# EAGLE library part NT3H (library PCB_BusinessCard)
NXP NTAG NT3H
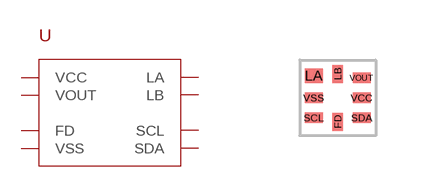
[diagram p0: symbol with the pads of XQFN8; footprint XQFN8]

Designator prefix -

## NT3H  [XQFN8]
FD  FD
LA  LA
LB  LB
SCL  SCL
SDA  SDA
VCC  VCC
VOUT  VOUT
VSS  VSS

## Footprint XQFN8 (pad centres in mm)
NXP NTAG NT3H
smd 0.27 x 0.45: FD 0,-0.6; LB 0,0.6
smd 0.45 x 0.37: LA -0.6,0.55
smd 0.45 x 0.27: SCL -0.6,-0.5; SDA 0.6,-0.5; VCC 0.6,0; VOUT 0.6,0.5; VSS -0.6,0